# Altium footprint library SON_80P_V.PcbLib: 4 footprints
Each footprint in its own frame and in the unit in brackets; x right, y up, seen from the top. Pads: shape width x height; smd on the part's side, far side on the other; paste and mask are expansions set on the pad; w line width, h text height; cw(c..) or ccw(c..) is an arc to the next point about the centre after c.
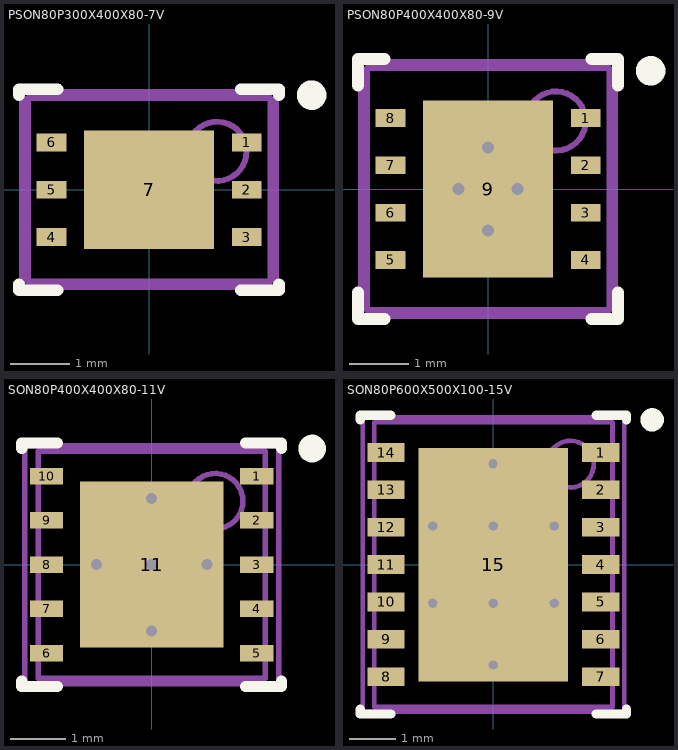
[diagram p0: the footprints below, top view; thin cyan lines are the x and y axes]

## PSON80P300X400X80-7V [mm] "PSON, 6-Leads, Body 3x4 mm, Pitch 0.8mm, NSC Recommended"
height 0.8
pads (7):
  rect 0.5x0.3 smd paste-0.15 mask+0.051: 1(1.65,0.8) 2(1.65,0) 3(1.65,-0.8) 4(-1.65,-0.8) 5(-1.65,0) 6(-1.65,0.8)
  rect 2.2x2 smd paste-1 mask+0.051: 7(0,0)
Top Overlay:
  circle w0.25: c2.75,1.6 r0.125
  lines w0.2: -2.2,-1.7 -2.2,-1.6 ; -2.2,1.6 -2.2,1.7 ; -2.195,-1.7 -1.55,-1.7 ; -2.195,1.7 -1.55,1.7 ; 1.55,-1.7 2.195,-1.7 ; 1.55,1.7 2.195,1.7 ; 2.2,-1.7 2.2,-1.6 ; 2.2,1.6 2.2,1.7
Top Paste:
  rectangle: -2,-0.15 -1.5,0.15
  region: 2,0.15 1.5,0.15 1.5,-0.15 2,-0.15
  region: 2,-0.65 1.5,-0.65 1.5,-0.95 2,-0.95
  rectangle: -2,-0.95 -1.5,-0.65
  rectangle: -2,0.65 -1.5,0.95
  region: 2,0.95 1.5,0.95 1.5,0.65 2,0.65
  rectangle: 0.15,0.15 1,0.9
  region: -0.15,-0.15 -1,-0.15 -1,-0.9 -0.15,-0.9
  rectangle: 0.15,-0.9 1,-0.15
  region: -0.15,0.9 -1,0.9 -1,0.15 -0.15,0.15
Mechanical 13:
  circle w0.1: c1.15,0.65 r0.5
  lines w0.1: -2.05,-1.55 -2.05,1.55 2.05,1.55 2.05,-1.55 -2.05,-1.55
Mechanical 15:
  lines w0.1: -0.5,0 0.5,0 ; 0,-0.5 0,0.5 ; -2.15,-1.65 2.15,-1.65 2.15,1.65 -2.15,1.65 -2.15,-1.65

## PSON80P400X400X80-9V [mm] "PSON, 8-Leads, Body 4x4mm, Pitch 0.8mm, NSC Recommended"
height 0.8
pads (9):
  rect 0.5x0.3 smd paste-0.15 mask+0.051: 1(1.65,1.2) 2(1.65,0.4) 3(1.65,-0.4) 4(1.65,-1.2) 5(-1.65,-1.2) 6(-1.65,-0.4) 7(-1.65,0.4) 8(-1.65,1.2)
  rect 2.2x3 smd paste-1.5 mask+0.051: 9(0,0)
via 0,-0.7 diameter 0.5 hole 0.2
via 0,0.7 diameter 0.5 hole 0.2
via -0.5,0 diameter 0.5 hole 0.2
via 0.5,0 diameter 0.5 hole 0.2
Top Overlay:
  circle w0.25: c2.75,2 r0.125
  lines w0.2: -2.2,-1.75 -2.2,-2.2 -1.75,-2.2 ; -2.2,1.75 -2.2,2.2 -1.75,2.2 ; 1.75,-2.2 2.2,-2.2 2.2,-1.75 ; 1.75,2.2 2.2,2.2 2.2,1.75
Top Paste:
  region: 1.5,1.35 1.5,1.05 2,1.05 2,1.35
  region: 1.5,0.55 1.5,0.25 2,0.25 2,0.55
  region: 1.5,-0.25 1.5,-0.55 2,-0.55 2,-0.25
  region: 1.5,-1.05 1.5,-1.35 2,-1.35 2,-1.05
  region: -2,-1.05 -2,-1.35 -1.5,-1.35 -1.5,-1.05
  region: -2,-0.25 -2,-0.55 -1.5,-0.55 -1.5,-0.25
  region: -2,0.55 -2,0.25 -1.5,0.25 -1.5,0.55
  region: -2,1.35 -2,1.05 -1.5,1.05 -1.5,1.35
  region: -1,1.4 -1,0.1 -0.1,0.1 -0.1,1.4
  region: -0.1,-1.4 -0.1,-0.1 -1,-0.1 -1,-1.4
  region: 1,-1.4 1,-0.1 0.1,-0.1 0.1,-1.4
  region: 0.1,1.4 0.1,0.1 1,0.1 1,1.4
Mechanical 13:
  circle w0.1: c1.15,1.15 r0.5
  lines w0.1: -2.05,-2.05 -2.05,2.05 2.05,2.05 2.05,-2.05 -2.05,-2.05
Mechanical 15:
  lines w0.1: -0.5,0 0.5,0 ; 0,-0.5 0,0.5 ; -2.15,-2.15 -2.15,2.15 2.15,2.15 2.15,-2.15 -2.15,-2.15
3D body: height 0.8, standoff 0, extent -2.05,-2.05 2.05,2.05

## SON80P400X400X80-11V [mm] "SON, 10-Leads, Body 4x4 mm, Pitch 0.8mm, NSC Recommended"
height 0.8
pads (11):
  rect 0.6x0.3 smd paste-0.15 mask+0.051: 1(1.9,1.6) 2(1.9,0.8) 3(1.9,0) 4(1.9,-0.8) 5(1.9,-1.6) 6(-1.9,-1.6) 7(-1.9,-0.8) 8(-1.9,0) 9(-1.9,0.8) 10(-1.9,1.6)
  rect 2.6x3 smd paste-1.3 mask+0.051: 11(0,0)
via 1,0 diameter 0.5 hole 0.2
via 0,-1.2 diameter 0.5 hole 0.2
via 0,0 diameter 0.5 hole 0.2
via 0,1.2 diameter 0.5 hole 0.2
via -1,0 diameter 0.5 hole 0.2
Top Overlay:
  circle w0.25: c2.9,2.1 r0.125
  lines w0.2: -2.35,-2.2 -2.35,-2.1 ; -2.35,2.1 -2.35,2.2 ; -2.345,-2.2 -1.7,-2.2 ; -2.345,2.2 -1.7,2.2 ; 1.7,-2.2 2.345,-2.2 ; 1.7,2.2 2.345,2.2 ; 2.35,-2.2 2.35,-2.1 ; 2.35,2.1 2.35,2.2
Top Paste:
  region: -0.1,-0.1 -1.2,-0.1 -1.2,-1.4 -0.1,-1.4
  rectangle: 0.1,-1.4 1.2,-0.1
  rectangle: 0.1,0.1 1.2,1.4
  region: -0.1,1.4 -1.2,1.4 -1.2,0.1 -0.1,0.1
  region: 2.4,1.75 1.7,1.75 1.7,1.45 2.4,1.45
  region: 2.4,0.95 1.7,0.95 1.7,0.65 2.4,0.65
  region: 2.4,0.15 1.7,0.15 1.7,-0.15 2.4,-0.15
  region: 2.4,-0.65 1.7,-0.65 1.7,-0.95 2.4,-0.95
  region: 2.4,-1.45 1.7,-1.45 1.7,-1.75 2.4,-1.75
  rectangle: -2.4,-1.75 -1.7,-1.45
  rectangle: -2.4,-0.95 -1.7,-0.65
  rectangle: -2.4,-0.15 -1.7,0.15
  rectangle: -2.4,0.65 -1.7,0.95
  rectangle: -2.4,1.45 -1.7,1.75
Mechanical 13:
  circle w0.1: c1.15,1.15 r0.5
  lines w0.1: -2.05,-2.05 2.05,-2.05 2.05,2.05 -2.05,2.05 -2.05,-2.05
Mechanical 15:
  lines w0.1: -0.5,0 0.5,0 ; 0,-0.5 0,0.5 ; -2.3,-2.15 2.3,-2.15 2.3,2.15 -2.3,2.15 -2.3,-2.15
3D body: height 0.8, standoff 0, extent -2.049,-2.049 2.049,2.049

## SON80P600X500X100-15V [mm] "SON, 14-Leads, Body 6x5 mm, Pitch 0.8mm, NSC Recommended"
height 1
pads (15):
  rect 0.8x0.4 smd paste-0.2 mask+0.051: 1(2.3,2.4) 2(2.3,1.6) 3(2.3,0.8) 4(2.3,0) 5(2.3,-0.8) 6(2.3,-1.6) 7(2.3,-2.4) 8(-2.3,-2.4) 9(-2.3,-1.6) 10(-2.3,-0.8) 11(-2.3,0) 12(-2.3,0.8) 13(-2.3,1.6) 14(-2.3,2.4)
  rect 3.2x5 smd paste-1.6 mask+0.051: 15(0,0)
via -1.3,-0.825 diameter 0.5 hole 0.2
via 0,-0.825 diameter 0.5 hole 0.2
via 1.3,-0.825 diameter 0.5 hole 0.2
via -1.3,0.825 diameter 0.5 hole 0.2
via 0,0.825 diameter 0.5 hole 0.2
via 1.3,0.825 diameter 0.5 hole 0.2
via 0,-2.15 diameter 0.5 hole 0.2
via -0.01,2.16 diameter 0.5 hole 0.2
Top Overlay:
  circle w0.25: c3.4,3.1 r0.125
  lines w0.2: -2.85,-3.2 -2.85,-3.1 ; -2.85,3.1 -2.85,3.2 ; -2.845,-3.2 -2.2,-3.2 ; -2.845,3.2 -2.2,3.2 ; 2.2,-3.2 2.845,-3.2 ; 2.2,3.2 2.845,3.2 ; 2.85,-3.2 2.85,-3.1 ; 2.85,3.1 2.85,3.2
Top Paste:
  region: 2.9,2.6 2,2.6 2,2.2 2.9,2.2
  region: 1.5,-0.95 0.1,-0.95 0.1,-2.35 1.5,-2.35
  rectangle: -1.5,-2.35 -0.1,-0.95
  region: 1.5,2.35 0.1,2.35 0.1,0.95 1.5,0.95
  rectangle: -1.5,0.95 -0.11,2.35
  region: 1.5,0.7 0.1,0.7 0.1,-0.7 1.5,-0.7
  rectangle: -1.5,-0.7 -0.1,0.7
  region: 2.9,1.8 2,1.8 2,1.4 2.9,1.4
  region: 2.9,1 2,1 2,0.6 2.9,0.6
  region: 2.9,-0.6 2,-0.6 2,-1 2.9,-1
  region: 2.9,-1.4 2,-1.4 2,-1.8 2.9,-1.8
  region: 2.9,-2.2 2,-2.2 2,-2.6 2.9,-2.6
  rectangle: 2,-0.2 2.9,0.2
  region: -2,0.2 -2.9,0.2 -2.9,-0.2 -2,-0.2
  rectangle: -2.9,-2.6 -2,-2.2
  rectangle: -2.9,-1.8 -2,-1.4
  rectangle: -2.9,-1 -2,-0.6
  rectangle: -2.9,0.6 -2,1
  rectangle: -2.9,1.4 -2,1.8
  rectangle: -2.9,2.2 -2,2.6
Mechanical 13:
  circle w0.1: c1.65,2.15 r0.5
  lines w0.1: -2.55,-3.05 -2.55,3.05 2.55,3.05 2.55,-3.05 -2.55,-3.05
Mechanical 15:
  lines w0.1: -0.5,0 0.5,0 ; 0,-0.5 0,0.5 ; -2.8,-3.15 -2.8,3.15 2.8,3.15 2.8,-3.15 -2.8,-3.15
3D body: height 1, standoff 0, extent -2.549,-3.049 2.549,3.049